# Altium schematic symbol library GRM188Z71A106KA73D.SchLib: 1 symbol
Pins are listed as number, name and electrical type; pins without a type are passive.

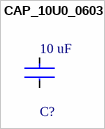
[diagram p0: symbol CAP_10U0_0603]

## CAP_10U0_0603
designator C?, comment 10 uF
Chip Multilayer Ceramic Capacitors for General Purpose, 0603, 10uF, X7R, 15%, 10%, 10V
footprint FP-GRM188-0_2-IPC_C
footprint FP-GRM188-0_2-IPC_B
footprint FP-GRM188-0_2-MFG
footprint FP-GRM188-0_2-IPC_A
pins: 1, 2